# Altium footprint library PcbLib1.PcbLib: 2 footprints
Each footprint in its own frame and in the unit in brackets; x right, y up, seen from the top. Pads: shape width x height; smd on the part's side, far side on the other; paste and mask are expansions set on the pad; w line width, h text height; cw(c..) or ccw(c..) is an arc to the next point about the centre after c.
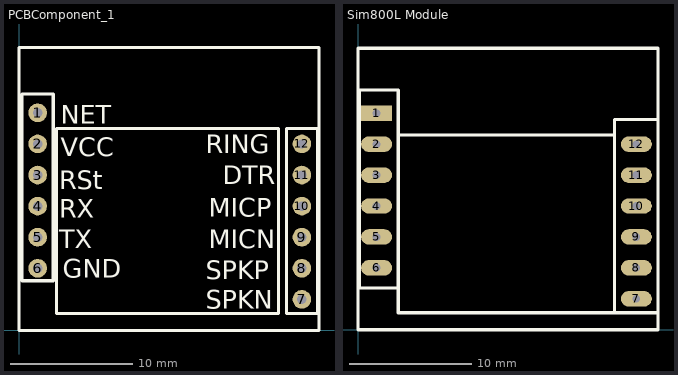
[diagram p0: the footprints below, top view; thin cyan lines are the x and y axes]

## PCBComponent_1 [mil]
pads (12):
  round 60 hole 30: 1(60,700) 2(60,600) 3(60,500) 4(60,400) 5(60,300) 6(60,200) 7(910,100) 8(910,200) 9(910,300) 10(910,400) 11(910,500) 12(910,600)
Top Overlay:
  lines w10: 0,0 965,0 965,535 965,910 0,910 0,0 ; 10,160 10,760 110,760 110,160 10,160 ; 120,55 120,650 835,650 835,55 120,55 ; 860,55 860,650 960,650 960,55 860,55
  text "NET" at 135,665 h60
  text "VCC" at 135,560 h60
  text "RSt" at 130,455 h60
  text "RX" at 130,362.5 h60
  text "TX" at 130,265 h60
  text "GND" at 140,170 h60
  text "SPKN" at 600,70 h60
  text "SPKP" at 600,165 h60
  text "MICN" at 610,265 h60
  text "MICP" at 610,365 h60
  text "DTR" at 655,470 h60
  text "RING" at 600,570 h60

## Sim800L Module [mil]
pads (12):
  rect 100x50 hole 25: 1(60,700)
  oval 100x50 hole 25: 2(60,600) 3(60,500) 4(60,400) 5(60,300) 6(60,200) 7(900,100) 8(900,200) 9(900,300) 10(900,400) 11(900,500) 12(900,600)
Top Overlay:
  lines w10: 950,910 970,910 970,905 970,0 0,0 0,910 710,910 965,910 ; 830,55 130,55 130,630 830,630 830,55 ; 830,55 970,55 970,680 830,680 830,55 ; 5,135 130,135 130,775 5,775 5,135